# EAGLE library part KXG03 (library lz-shield)
Digi-Key品番 1191-1043-1-ND
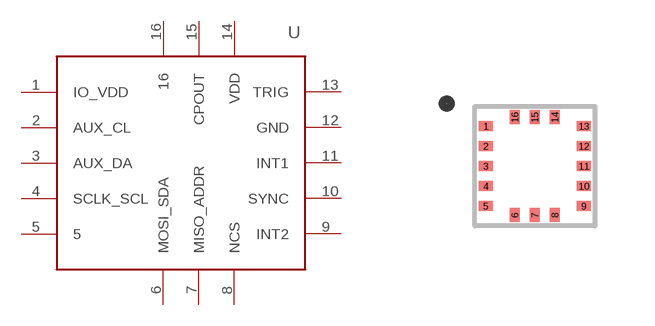
[diagram p10: symbol with the pads of KXG03; footprint KXG03]

Designator prefix -

## KXG03  [KXG03]
1  IO_VDD  pwr
2  AUX_CL  in
3  AUX_DA
4  SCLK_SCL  in
5  5  nc
6  MOSI_SDA
7  MISO_ADDR
8  NCS
9  INT2  out
10  SYNC
11  INT1  out
12  GND  pwr
13  TRIG  in
14  VDD  pwr
15  CPOUT
16  16  nc

## Footprint KXG03 (pad centres in mm)
smd 0.35 x 0.25: 1 -1.225,1; 2 -1.225,0.5; 3 -1.225,0; 4 -1.225,-0.5; 5 -1.225,-1; 9 1.225,-1; 10 1.225,-0.5; 11 1.225,0; 12 1.225,0.5; 13 1.225,1
smd 0.25 x 0.35: 6 -0.5,-1.225; 7 0,-1.225; 8 0.5,-1.225; 14 0.5,1.225; 15 0,1.225; 16 -0.5,1.225